# Altium schematic symbol library Header_R.SchLib: 1 symbol
Pins are listed as number, name and electrical type; pins without a type are passive.

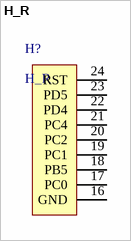
[diagram p0: symbol H_R]

## H_R
designator H?
footprint R
pins: 16 GND, 17 PC0, 18 PB5, 19 PC1, 20 PC2, 21 PC4, 22 PD4, 23 PD5, 24 RST